# Altium schematic symbol library MB10S.SchLib: 1 symbol
Pins are listed as number, name and electrical type; pins without a type are passive.

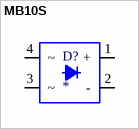
[diagram p0: symbol MB10S]

## MB10S
designator D?
footprint MBS
pins: 1 +, 2 -, 3 ~, 4 ~